# EAGLE library part MCP6024_TSSOP14 (library Tobias)
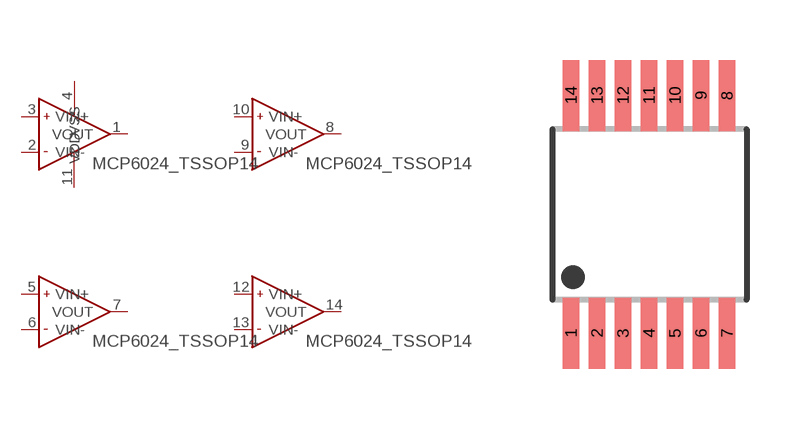
[diagram p2: symbol with the pads of TSSOP14; footprint TSSOP14]

Designator prefix -; gates A=MCP6024 B=MCP6024 C=MCP6024 D=MCP6024 G$1=POWER

## MCP6024_TSSOP14  [TSSOP14]
1  A:VOUT  out
2  A:VIN-  in
3  A:VIN+  in
4  G$1:VDD  pwr
5  B:VIN+  in
6  B:VIN-  in
7  B:VOUT  out
8  C:VOUT  out
9  C:VIN-  in
10  C:VIN+  in
11  G$1:VSS  pwr
12  D:VIN+  in
13  D:VIN-  in
14  D:VOUT  out

## Footprint TSSOP14 (pad centres in mm)
14-Lead Exposed Pad Package NS Package Number MXA14A Source: http://cache.national.com/ds/LM/LM5015.pdf
smd 0.42 x 1.78: 1 -1.95,-2.975; 2 -1.3,-2.975; 3 -0.65,-2.975; 4 0,-2.975; 5 0.65,-2.975; 6 1.3,-2.975; 7 1.95,-2.975; 8 1.95,2.975; 9 1.3,2.975; 10 0.65,2.975; 11 0,2.975; 12 -0.65,2.975; 13 -1.3,2.975; 14 -1.95,2.975